# Altium integrated library ST Power Mgt AC DC Converter.IntLib: 1 symbol
Pins are listed as number, name and electrical type; pins without a type are passive.

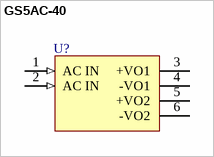
[diagram p0: symbol GS5AC-40]

## GS5AC-40
designator U?
ISDN AC-DC Converter; Published: 24-Aug-2001; LatestRevisionDate: 17-Jul-2002; LatestRevisionNote: Re-released for DXP Platform.; DatasheetDocument: Jan-1997; PackageReference: MODULE6B; Publisher: Altium Limited; ComponentLink1Description: Manufacturer Link; ComponentLink1URL: http://www.st.com/
footprint MODULE6B (DIP; 6 Round Pins; Row Space 40.64 mm; Pitch 2.54 mm)
pins: 1 AC IN (in), 2 AC IN (in), 3 +VO1 (power), 4 -VO1 (power), 5 +VO2 (power), 6 -VO2 (power)